# Altium footprint library adafruit.PCBLIB: 643 footprints (part 30 of 41)
Each footprint in its own frame and in the unit in brackets; x right, y up, seen from the top. Pads: shape width x height; smd on the part's side, far side on the other; paste and mask are expansions set on the pad; w line width, h text height; cw(c..) or ccw(c..) is an arc to the next point about the centre after c.
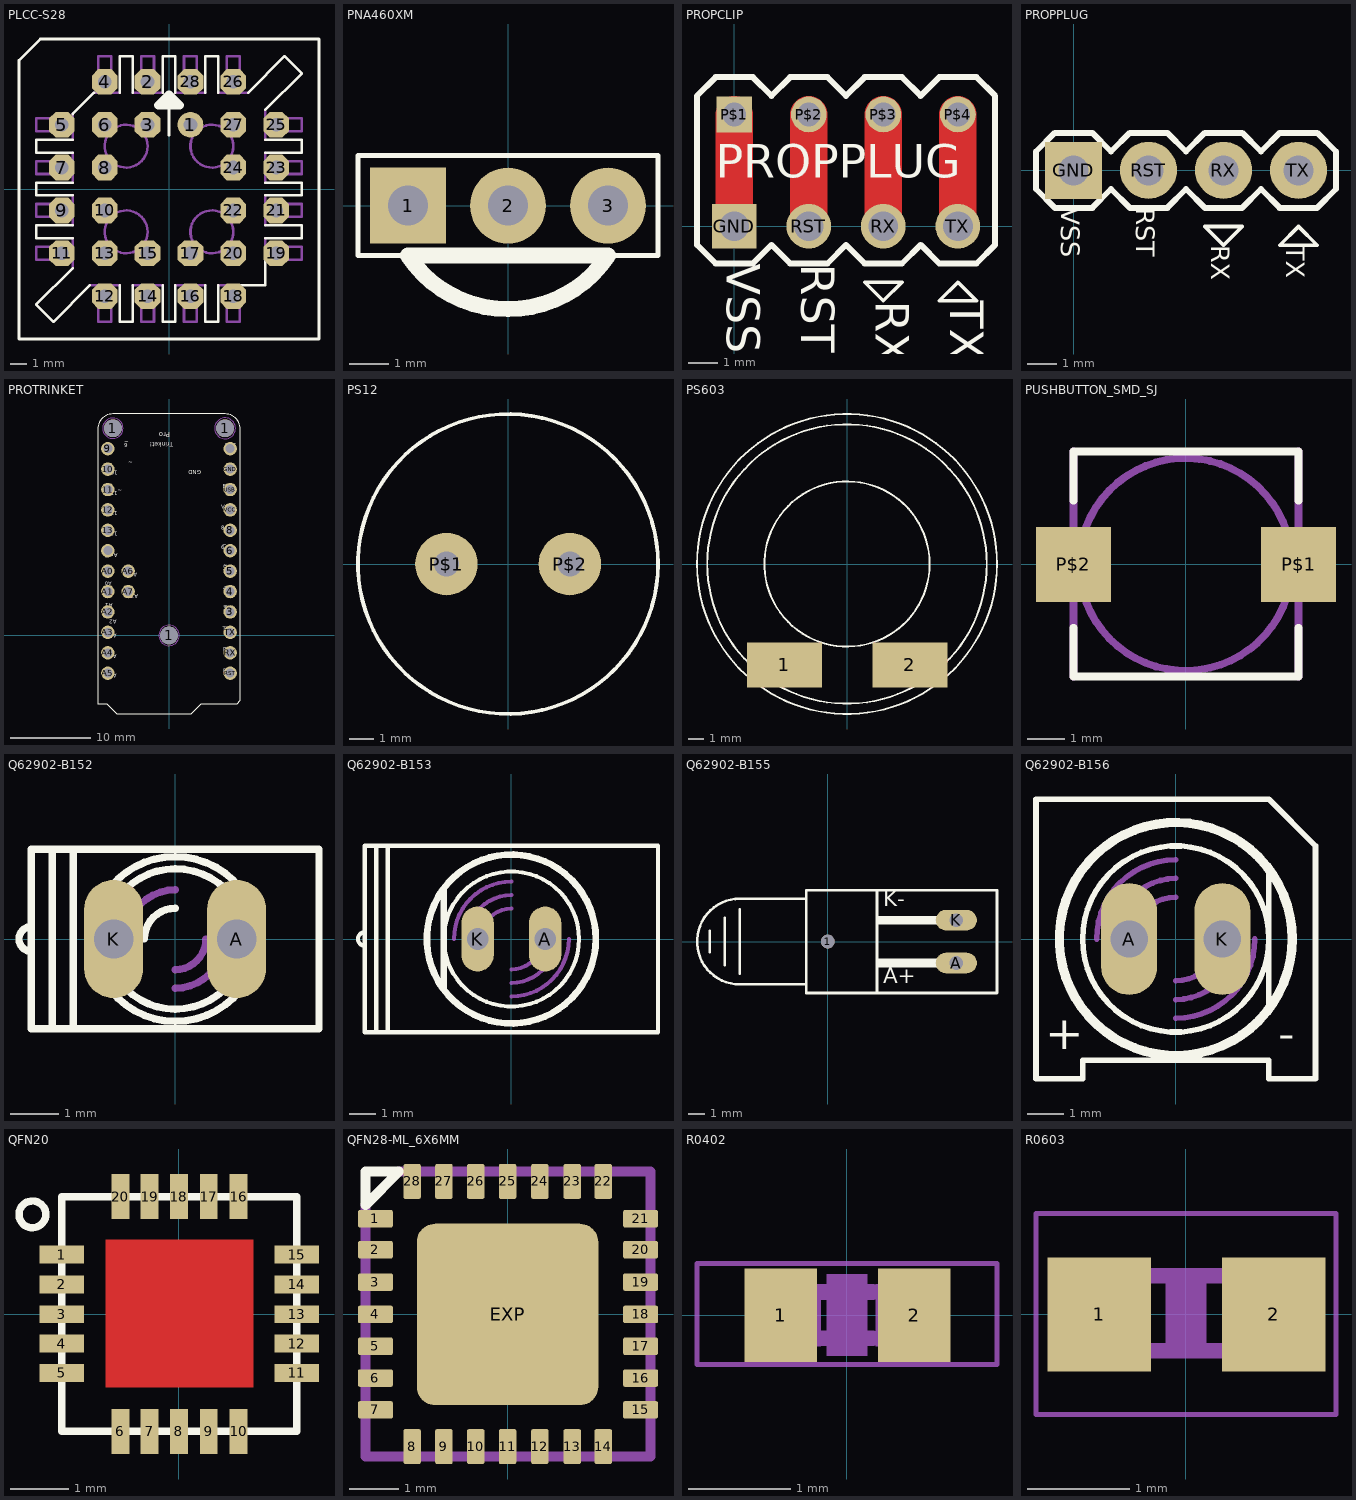
[diagram p29: the footprints below, top view; thin cyan lines are the x and y axes]

## PLCC-S28 [mil]
pads (28):
  round 60 hole 32: 1(50,150)
  oct 60x60 hole 32: 2(-50,250) 3(-50,150) 4(-150,250) 5(-250,150) 6(-150,150) 7(-250,50) 8(-150,50) 9(-250,-50) 10(-150,-50) 11(-250,-150) 12(-150,-250) 13(-150,-150) 14(-50,-250) 15(-50,-150) 16(50,-250) 17(50,-150) 18(150,-250) 19(250,-150) 20(150,-150) 21(250,-50) 22(150,-50) 23(250,50) 24(150,50) 25(250,150) 26(150,250) 27(150,150) 28(50,250)
Top Overlay:
  lines w6: -225,-185 -310,-270 -270,-310 -185,-225 ; -225,-115 -310,-115 -310,-85 -225,-85 ; -225,-15 -310,-15 -310,15 -225,15 ; -225,85 -310,85 -310,115 -225,115 ; -225,175 -175,225 ; -115,-225 -115,-310 -85,-310 -85,-225 ; -115,225 -115,310 -85,310 -85,225 ; -15,-225 -15,-310 15,-310 15,-225 ; -15,225 -15,310 15,310 15,225 ; 0,125 0,220 ; 85,-225 85,-310 115,-310 115,-225 ; 85,225 85,310 115,310 115,225 ; 165,-225 225,-225 225,-165 ; 185,225 270,310 310,270 225,185 ; 225,-115 310,-115 310,-85 225,-85 ; 225,-15 310,-15 310,15 225,15 ; 225,85 310,85 310,115 225,115 ; -350,-350 -350,300 -300,350 350,350 350,-350 -350,-350
  lines w20: -25,195 25,195 0,220 -25,195
Courtyard Bottom:
  circle w6: c-100,100 r50
  circle w6: c100,100 r50
  circle w6: c-100,-100 r50
  circle w6: c100,-100 r50
  lines w6: -225,-185 -225,-165 -310,-165 -310,-135 -225,-135 -225,-115 ; -225,-85 -225,-65 -310,-65 -310,-35 -225,-35 -225,-15 ; -225,15 -225,35 -310,35 -310,65 -225,65 -225,85 ; -225,115 -225,135 -310,135 -310,165 -225,165 -225,175 ; -185,-225 -165,-225 -165,-310 -135,-310 -135,-225 -115,-225 ; -175,225 -165,225 -165,310 -135,310 -135,225 -115,225 ; -85,-225 -65,-225 -65,-310 -35,-310 -35,-225 -15,-225 ; -85,225 -65,225 -65,310 -35,310 -35,225 -15,225 ; 15,-225 35,-225 35,-310 65,-310 65,-225 85,-225 ; 15,225 35,225 35,310 65,310 65,225 85,225 ; 115,-225 135,-225 135,-310 165,-310 165,-225 ; 115,225 135,225 135,310 165,310 165,225 185,225 ; 225,-165 310,-165 310,-135 225,-135 225,-115 ; 225,-85 225,-65 310,-65 310,-35 225,-35 225,-15 ; 225,15 225,35 310,35 310,65 225,65 225,85 ; 225,115 225,135 310,135 310,165 225,165 225,185

## PNA460XM [mil]
pads (3):
  rect 76x76 hole 40: 1(-100,0)
  round 76 hole 40: 2(0,0) 3(100,0)
Top Overlay:
  lines w5: -100,-50 -150,-50 -150,50 150,50 150,-50 100,-50
  lines w16: -100,-50 100,-50 cw(c0,16.66) -100,-50
Courtyard Bottom:
  rectangle: 90,-10 110,10
  rectangle: -10,-10 10,10
  rectangle: -110,-10 -90,10

## PROPCLIP [mil]
pads (8):
  rect 60x60 hole 40: GND(0,0)
  rect 48x48 hole 32: P$1(0,150)
  round 48 hole 32: P$2(100,150) P$3(200,150) P$4(300,150)
  round 60 hole 40: RST(100,0) RX(200,0) TX(300,0)
Top Layer:
  lines w50: 0,0 0,150 ; 100,0 100,150 ; 200,0 200,150 ; 300,0 300,150
Top Overlay:
  lines w5: 175,-75 200,-100 225,-75 175,-75 ; 275,-100 325,-100 300,-75 275,-100
  lines w8: -50,-25 -50,175 -25,200 25,200 50,175 75,200 125,200 150,175 175,200 225,200 250,175 275,200 325,200 350,175 350,-25 325,-50 275,-50 250,-25 225,-50 175,-50 150,-25 125,-50 75,-50 50,-25 25,-50 -25,-50 -50,-25
  text "VSS" at -25,-50 h77.5
  text "RST" at 75,-50 h77.5
  text "RX" at 175,-100 h77.5
  text "TX" at 275,-100 h77.5
  text "PROPPLUG" at -25,50 h77.5
Courtyard Bottom:
  rectangle: 290,-10 310,10
  rectangle: 190,-10 210,10
  rectangle: 90,-10 110,10
  rectangle: -10,-10 10,10

## PROPPLUG [mil]
pads (4):
  rect 76x76 hole 40: GND(0,0)
  round 76 hole 40: RST(100,0) RX(200,0) TX(300,0)
Top Overlay:
  lines w5: 175,-75 200,-100 225,-75 175,-75 ; 275,-100 325,-100 300,-75 275,-100
  lines w8: -50,-25 -50,25 -25,50 25,50 50,25 75,50 125,50 150,25 175,50 225,50 250,25 275,50 325,50 350,25 350,-25 325,-50 275,-50 250,-25 225,-50 175,-50 150,-25 125,-50 75,-50 50,-25 25,-50 -25,-50 -50,-25
  text "VSS" at -25,-50 h42.5
  text "RST" at 75,-50 h42.5
  text "RX" at 175,-100 h42.5
  text "TX" at 275,-100 h42.5
Courtyard Bottom:
  rectangle: 290,-10 310,10
  rectangle: 190,-10 210,10
  rectangle: 90,-10 110,10
  rectangle: -10,-10 10,10

## PROTRINKET [mil]
pads (29):
  round 87 hole 87: 1(-275,1015) 1(0,0) 1(275,1015)
  round 66 hole 44: 3(300,115) 4(300,215) 5(300,315) 6(300,415) 8(300,515) 9(-300,915) 10(-300,815) 11(-300,715) 12(-300,615) 13(-300,515) A0(-300,315) A1(-300,215) A2(-300,115) A3(-300,15) A4(-300,-85) A5(-300,-185) A6(-200,315) A7(-200,215) AREF(-300,415) BAT+(300,915) GND(300,815) RST(300,-185) RX(300,-85) TX(300,15) USB(300,715) VCC(300,615)
Top Overlay:
  lines w0: -350,-335 -350,1010 cw(c-275,1010) -275,1085 275,1085 cw(c275,1010) 350,1010 350,-317.5 335,-335 158,-335 108,-385 -255,-385 -305,-335 -350,-335
  text "BAT" at 273,913 h34
  text "GND" at 157,816 h34
  text "BUS" at 263,713 h32.3
  text "VCC" at 255,613 h34
  text "8" at 255,510 h34
  text "6" at 255,415 h34
  text "5" at 265,315 h34
  text "4" at 265,215 h34
  text "3" at 265,115 h34
  text "TX" at 263,15 h34
  text "RX" at 265,-85 h34
  text "RST" at 265,-190 h34
  text "A5" at -255,-180 h34
  text "A4" at -255,-85 h34
  text "A3" at -255,15 h34
  text "A2" at -255,85 h34
  text "A7" at -150,210 h34
  text "A1" at -275,165 h32.3
  text "A0" at -280,270 h29.75
  text "A6" at -155,315 h34
  text "Aref" at -250,410 h34
  text "13" at -250,515 h34
  text "12" at -250,615 h34
  text "11" at -250,715 h34
  text "~" at 265,330 h34
  text "~" at 260,430 h34
  text "10" at -250,815 h34
  text "~" at -200,835 h34
  text "~" at 265,130 h34
  text "~" at -230,725 h34
  text "Trinket!" at 20,955 h38.25
  text "9" at -220,915 h34
  text "~" at -220,935 h34
  text "Pro" at 5,1005 h42.5
Courtyard Bottom:
  circle w5: c275,1015 r51
  circle w5: c-275,1015 r50
  circle w5: c0,0 r50

## PS12 [mil]
pads (2):
  round 100 hole 40: P$1(-98.43,0) P$2(99,0)
Top Overlay:
  circle w6: c0,0 r240

## PS603 [mil]
pads (2):
  rect 197x119 smd: 1(-164.72,-265.28) 2(165,-265.28)
Top Overlay:
  circle w5: c0,0 r394
  circle w5: c0,0 r367
  circle w5: c0,0 r217

## PUSHBUTTON_SMD_SJ [mil]
pads (2):
  rect 79x79 smd: P$1(119,0) P$2(-118.11,0)
Top Overlay:
  lines w8: -118.11,-66.93 -118.11,-118.11 119,-118.11 119,-66.93 ; -118.11,67 -118.11,119 119,119 119,67
Courtyard Bottom:
  circle w8: c0,0 r112
  lines w5: -118.11,-118.11 119,-118.11 ; -118.1,119 119,119
  lines w8: -118.11,-118.11 -118.1,119 ; 119,-118.11 119,119

## Q62902-B152 [mil]
pads (2):
  oval 48x96 hole 32: A(50,0) K(-50,0)
Top Overlay:
  lines w6: -117,-10 cw(c-117,0) -117,10 ; -57.55,35 cw(c-0.61,0.35) 0,67 cw(c0.17,-0.16) 58,34 ; -57.37,-34.62 ccw(c0,0) 0,-67 ccw(c0.32,0.56) 58,-34.62 ; -45.22,35 cw(c-0.3,0.15) 0,57 cw(c0.66,-0.71) 46,35 ; -44.69,-35.38 ccw(c0,0) 0,-57 ccw(c0.24,0.51) 45,-35.61 ; -25,0 cw(c0,0) 0,25 ; -100,-73 -83,-73 ; -100,-73 -100,73 ; -100,-73 -117,-73 -117,73 -100,73 ; -100,73 -83,73 ; -83,-73 117,-73 117,-19 117,19 117,73 -83,73 ; -83,-73 -83,-19 -83,19 -83,73
Courtyard Bottom:
  lines w6: -57.09,-35.06 cw(c0,0) -67,0 cw(c1.03,0.3) -56.88,36 ; -45.1,35 ccw(c0.21,0.07) -57,0 ccw(c0,0) -44.51,-35.61 ; -40,0 cw(c0,0) 0,40 ; 0,-40 ccw(c0,0) 40,0 ; 0,-25 ccw(c0,0) 25,0 ; 45,-35.72 ccw(c0.29,-0.83) 57,0 ccw(c-1.2,0.6) 45,36 ; 57,-35.33 ccw(c0.04,-0.13) 67,0 ccw(c0.3,1.51) 58,35

## Q62902-B153 [mil]
pads (2):
  oval 48x96 hole 32: A(50,0) K(-50,0)
Top Overlay:
  circle w6: c0,0 r100
  circle w10: c0,0 r125
  lines w6: -217,-10 cw(c-217,0) -217,10 ; -200,-138 -183,-138 ; -200,-138 -200,138 ; -200,-138 -217,-138 -217,138 -200,138 ; -200,138 -183,138 ; -183,-138 217,-138 217,138 -183,138 ; -183,-138 -183,138
  lines w10: -100,-75 -100,75
Courtyard Bottom:
  lines w6: -85,0 cw(c0,0) 0,85 ; -65,0 cw(c0,0) 0,65 ; -45,0 cw(c0,0) 0,45 ; 0,-85 ccw(c0,0) 85,0 ; 0,-65 ccw(c0,0) 65,0 ; 0,-45 ccw(c0,0) 45,0

## Q62902-B155 [mil]
pads (3):
  round 32 hole 32: 1(0,0)
  oval 96x48 hole 32: A(300,-50) K(300,50)
Top Overlay:
  rectangle: 115,40 265,60
  rectangle: 115,-60 265,-40
  lines w6: -275,-25 -275,25 ; -240,-55 -240,55 ; -205,-75 -205,75 ; -50,-100 -50,-120 115,-120 ; -50,-100 -205,-100 cw(c-205,0) -205,100 -50,100 ; -50,-100 -50,100 ; -50,100 -50,120 115,120 ; 115,-120 115,120 ; 115,-120 395,-120 395,120 115,120
  text "A+" at 130,-110 h62
  text "K-" at 130,70 h62

## Q62902-B156 [mil]
pads (2):
  oval 60x120 hole 40: A(-50,0) K(50,0)
Top Overlay:
  circle w6: c0,0 r100
  circle w10: c0,0 r125
  lines w6: 100,-75 100,75 ; -150,-150 -150,150 100,150 150,100 150,-150 100,-150 100,-130 -100,-130 -100,-150 -150,-150
  text "+" at -140,-130 h62
  text "-" at 110,-130 h62
Courtyard Bottom:
  lines w6: -85,0 cw(c0,0) 0,85 ; -65,0 cw(c0,0) 0,65 ; -45,0 cw(c0,0) 0,45 ; 0,-85 ccw(c0,0) 85,0 ; 0,-65 ccw(c0,0) 65,0 ; 0,-45 ccw(c0,0) 45,0

## QFN20 [mil]
pads (20):
  rect 30x12 smd: 1(-78.74,40) 2(-78.74,20) 3(-78.74,0) 4(-78.74,-19.68) 5(-78.74,-39.37) 11(79,-39.37) 12(79,-19.68) 13(79,0) 14(79,20) 15(79,40)
  rect 12x30 smd: 6(-39.37,-78.74) 7(-19.68,-78.74) 8(0,-78.74) 9(20,-78.74) 10(40,-78.74) 16(40,79) 17(20,79) 18(0,79) 19(-19.68,79) 20(-39.37,79)
Top Layer:
  rectangle: -49.21,-49.21 50,50
Top Overlay:
  circle w5: c-98.43,67 r9
  lines w5: -78.74,-78.74 79,-78.74 79,79 -78.74,79 -78.74,-78.74
Top Paste:
  rectangle: -47.24,16 -15.75,48
  rectangle: 16,16 48,48
  rectangle: 16,-47.24 48,-15.75
  rectangle: -47.24,-47.24 -15.75,-15.75
Top Solder:
  rectangle: -51.18,-51.18 52,52

## QFN28-ML_6X6MM [mil]
pads (29):
  rrect20% 28x14 smd: 1(-106.3,77) 2(-106.3,52) 3(-106.3,26) 4(-106.3,0) 5(-106.3,-25.59) 6(-106.3,-51.18) 7(-106.3,-76.77) 15(107,-76.77) 16(107,-51.18) 17(107,-25.59) 18(107,0) 19(107,26) 20(107,52) 21(107,77)
  rrect20% 14x28 smd: 8(-76.77,-106.3) 9(-51.18,-106.3) 10(-25.59,-106.3) 11(0,-106.3) 12(26,-106.3) 13(52,-106.3) 14(77,-106.3) 22(77,107) 23(52,107) 24(26,107) 25(0,107) 26(-25.59,107) 27(-51.18,107) 28(-76.77,107)
  rrect20% 146x146 smd: EXP(0,0)
Top Overlay:
  lines w8: -87.4,115 -87.4,115 ; -87.4,115 -114.11,115 -114.11,88 -87.4,115
Top Paste:
  rectangle: -119.76,71 -92.89,84
  rectangle: -119.76,45 -92.89,58
  rectangle: -119.76,20 -92.89,32
  rectangle: -119.76,-6.4 -92.89,7
  rectangle: -119.76,-31.99 -92.89,-19.19
  rectangle: -119.76,-57.58 -92.89,-44.78
  rectangle: -119.76,-83.17 -92.89,-70.37
  region: -70.37,-119.76 -70.37,-92.89 -83.17,-92.89 -83.17,-119.76
  region: -44.78,-119.76 -44.78,-92.89 -57.58,-92.89 -57.58,-119.76
  region: -19.19,-119.76 -19.19,-92.89 -31.99,-92.89 -31.99,-119.76
  region: 6.68,-120.04 6.68,-92.61 -6.11,-92.61 -6.11,-120.04
  region: 32.9,-119.83 32.9,-92.83 20.1,-92.83 20.1,-119.83
  region: 57.9,-119.83 57.9,-92.83 45.1,-92.83 45.1,-119.83
  region: 83.9,-119.83 83.9,-92.83 71.1,-92.83 71.1,-119.83
  region: 120,-70.37 93,-70.37 93,-83.17 120,-83.17
  region: 120,-44.78 93,-44.78 93,-57.58 120,-57.58
  region: 120,-19.19 93,-19.19 93,-31.99 120,-31.99
  region: 120,7 93,7 93,-6.4 120,-6.4
  region: 120,32 93,32 93,20 120,20
  region: 120,58 93,58 93,45 120,45
  region: 120,84 93,84 93,71 120,71
  region: 71,120 71,93 84,93 84,120
  region: 45,120 45,93 58,93 58,120
  region: 20,120 20,93 33,93 33,120
  region: -6.22,120.22 -6.22,92.78 6.78,92.78 6.78,120.22
  region: -32.09,119.93 -32.09,93.07 -19.09,93.07 -19.09,119.93
  region: -57.68,119.93 -57.68,93.07 -44.68,93.07 -44.68,119.93
  region: -83.27,119.93 -83.27,93.07 -70.27,93.07 -70.27,119.93
  rectangle: -68.33,-68.33 69,69
Top Solder:
  rectangle: -120.28,70 -92.38,84
  rectangle: -120.28,45 -92.38,59
  rectangle: -120.28,19 -92.38,33
  rectangle: -120.28,-7.17 -92.38,8
  rectangle: -120.28,-32.76 -92.38,-18.43
  rectangle: -120.28,-58.35 -92.38,-44.02
  rectangle: -120.28,-83.94 -92.38,-69.61
  region: -69.61,-120.27 -69.61,-92.38 -83.94,-92.38 -83.94,-120.27
  region: -44.02,-120.27 -44.02,-92.38 -58.35,-92.38 -58.35,-120.27
  region: -18.43,-120.27 -18.43,-92.38 -32.76,-92.38 -32.76,-120.27
  region: 7.19,-120.3 7.19,-92.35 -7.14,-92.35 -7.14,-120.3
  region: 33.17,-120.33 33.17,-92.33 18.83,-92.33 18.83,-120.33
  region: 59.17,-120.33 59.17,-92.33 44.83,-92.33 44.83,-120.33
  region: 84.17,-120.33 84.17,-92.33 69.83,-92.33 69.83,-120.33
  region: 121,-69.61 93,-69.61 93,-83.94 121,-83.94
  region: 121,-44.02 93,-44.02 93,-58.35 121,-58.35
  region: 121,-18.43 93,-18.43 93,-32.76 121,-32.76
  region: 121,8 93,8 93,-7.17 121,-7.17
  region: 121,33 93,33 93,19 121,19
  region: 121,59 93,59 93,45 121,45
  region: 121,84 93,84 93,70 121,70
  region: 70,121 70,93 84,93 84,121
  region: 45,121 45,93 59,93 59,121
  region: 19,121 19,93 33,93 33,121
  region: -6.97,120.97 -6.97,93.03 7.03,93.03 7.03,120.97
  region: -32.59,120.94 -32.59,93.06 -18.59,93.06 -18.59,120.94
  region: -58.18,120.94 -58.18,93.06 -44.18,93.06 -44.18,120.94
  region: -83.77,120.94 -83.77,93.06 -69.77,93.06 -69.77,120.94
  rectangle: -73.19,-73.19 74,74
Courtyard Bottom:
  lines w8: -114.11,88 -114.11,-114.11 115,-114.11 115,115 -87.4,115

## R0402 [mil]
pads (2):
  rect 28x36 smd: 1(-25.59,0) 2(26,0)
Assembly Text Top:
  rectangle: -7.87,-15.75 8,16
Courtyard Bottom:
  rectangle: -21.81,-12 -10,12
  rectangle: 11,-12 22,12
  lines w6: -9.65,-8.82 10,-8.82 ; -9.65,9 10,9
Mech37:
  lines w2: -57.99,-19.02 58,-19.02 58,20 -57.99,20 -57.99,-19.02

## R0603 [mil]
pads (2):
  rect 40x44 smd: 1(-33.46,0) 2(34,0)
Assembly Text Top:
  rectangle: -7.87,-15.75 8,16
Courtyard Bottom:
  rectangle: 17,-17 33,17
  rectangle: -33,-17 -17,17
  lines w6: -17.01,-14.02 18,-14.02 ; -17.01,15 18,15
Mech37:
  lines w2: -57.99,-38.7 58,-38.7 58,39 -57.99,39 -57.99,-38.7